# Altium footprint library DRA.PcbLib: 72 footprints (part 3 of 6)
Each footprint in its own frame and in the unit in brackets; x right, y up, seen from the top. Pads: shape width x height; smd on the part's side, far side on the other; paste and mask are expansions set on the pad; w line width, h text height; cw(c..) or ccw(c..) is an arc to the next point about the centre after c.
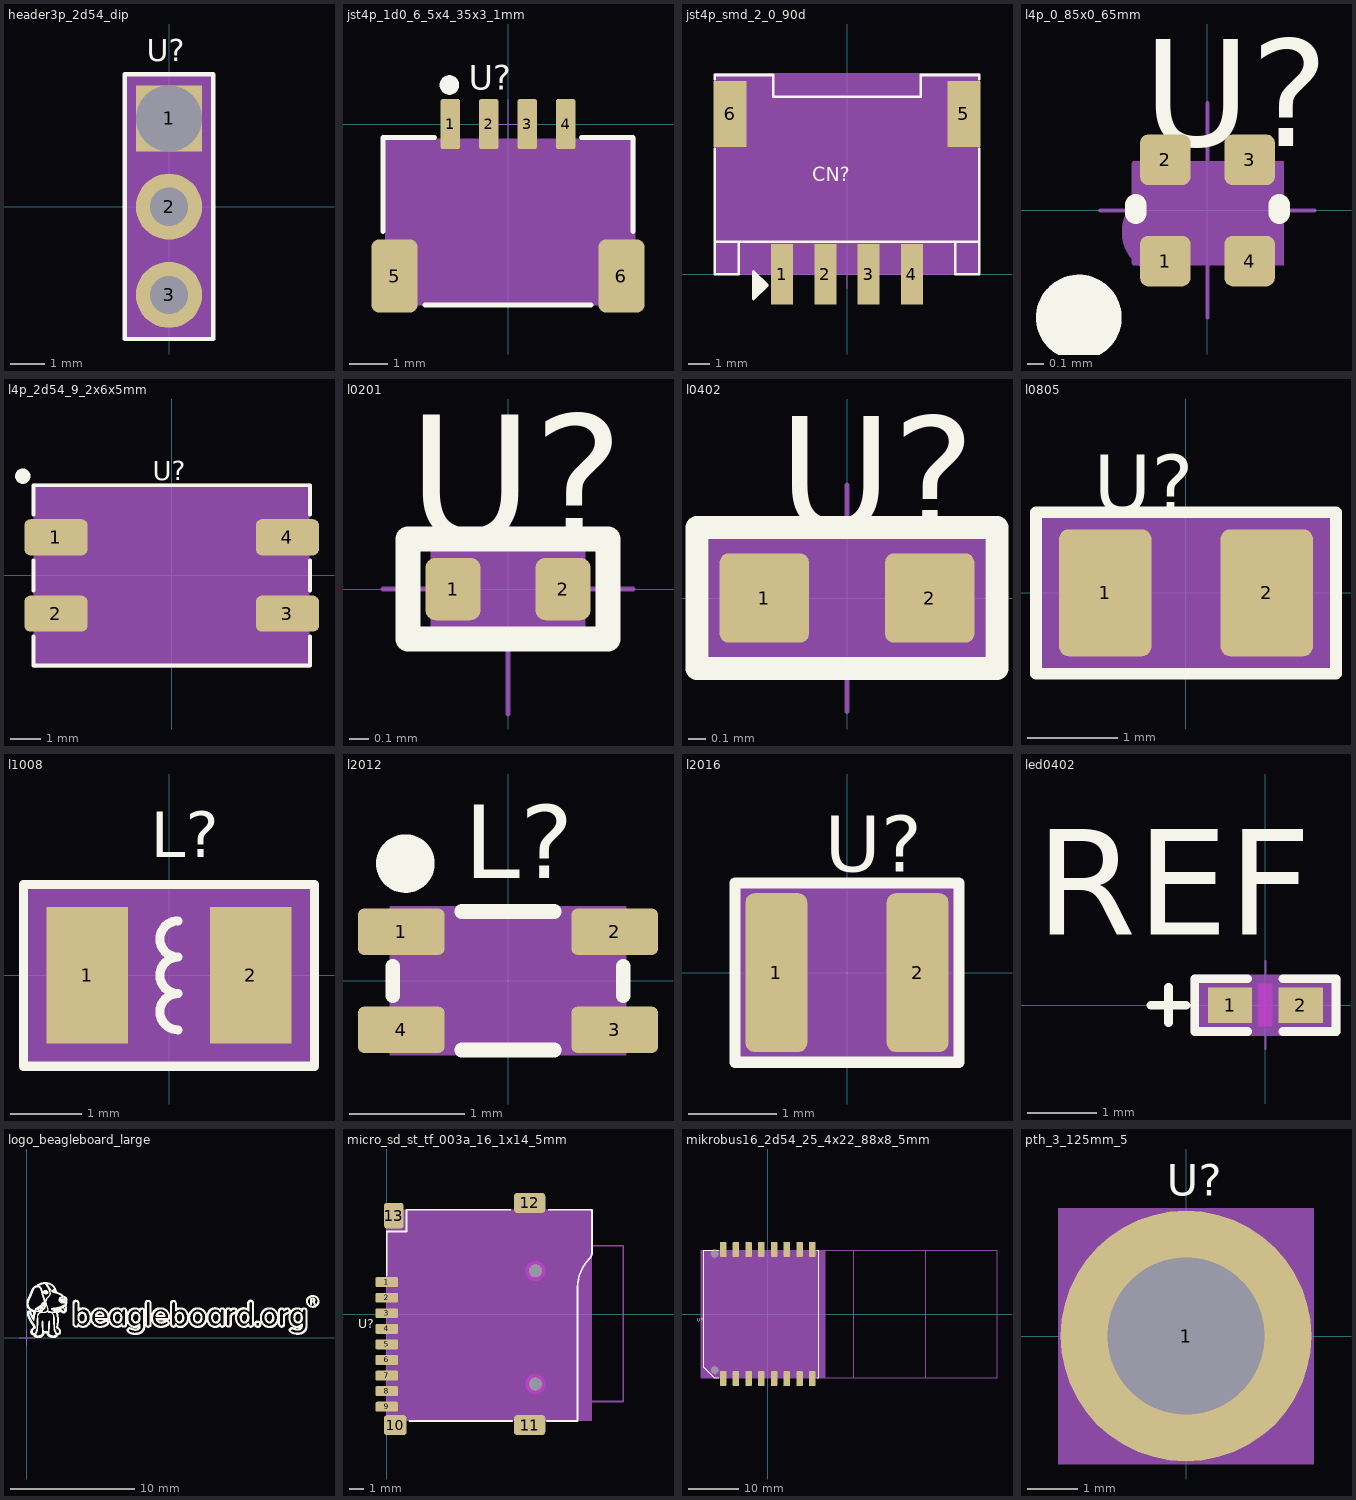
[diagram p2: the footprints below, top view; thin cyan lines are the x and y axes]

## header3p_2d54_dip [mil]
pads (3):
  rect 75x75 hole 75 square: 1(0,100)
  round 75 hole 43.31: 2(0,0) 3(0,-100)
Top Overlay:
  lines w5: -50,-150 -50,150 50,150 50,-150 -50,-150
  text "U?" at -25,165 h25
PLACE_BOUND_TOP:
  region: -50,-150 50,-150 50,150 -50,150
DRAWING_ORIGIN:
  lines w1: -25,0 25,0 ; 0,-25 0,25
PIN_NUMBER:
  text "1" at -10,100 h25
  text "3" at -10,-100 h25
  text "2" at -10,0 h25
ASSEMBLY_TOP:
  lines w1: -50,-150 -50,150 50,150 50,-150 -50,-150
  text "U?" at -10,-60 h25
  text "U?" at -40,-60 h25
3D body: height 150, standoff 0, extent -50,-150 50,150

## jst4p_1d0_6_5x4_35x3_1mm [mil]
pads (6):
  rrect20% 19.68x51.18 smd: 1(-59.06,0) 2(-19.69,0) 3(19.69,0) 4(59.06,0)
  rrect33% 47.24x74.8 smd: 5(-116.14,-155.51) 6(116.14,-155.51)
Top Overlay:
  circle w10: c-60,40 r5
  lines w5: -127.95,-110 -127.95,-13.78 -75,-13.78 ; -85,-185.04 85,-185.04 ; 75,-13.78 127.95,-13.78 127.95,-110
  text "U?" at -40,35 h25
PLACE_BOUND_TOP:
  region: -125,-185 130,-185 130,-15 -125,-15
DRAWING_ORIGIN:
  lines w1: -25,0 25,0 ; 0,-25 0,25
PIN_NUMBER:
  text "3" at 9.69,0 h25
  text "5" at -126.14,-155.51 h25
  text "1" at -69.06,0 h25
  text "6" at 106.14,-155.51 h25
  text "2" at -29.69,0 h25
  text "4" at 49.06,0 h25
ASSEMBLY_TOP:
  circle w10: c-60,-30 r5
  lines w1: -125,-185 -125,-15 130,-15 130,-185 -125,-185
  text "U?" at -5,-110 h25
  text "U?" at -5,-75 h25
3D body: height 150, standoff 0, extent -125,-185 130,-15

## jst4p_smd_2_0_90d [mil]
pads (6):
  rect 40x110 smd: 1(-118.11,0) 2(-39.37,0) 3(39.37,0) 4(118.11,0)
  rect 60x120 smd: 5(212.6,291.34) 6(-212.6,291.34)
Top Overlay:
  dashed: -170,5 -145,-20 -170,-45
  lines w5: -240.16,228.35 -240.16,59.06 ; -240.16,354.33 -240.16,362.2 -133.86,362.2 -133.86,322.83 133.86,322.83 133.86,362.2 240.16,362.2 240.16,354.33 ; -196.85,59.06 -196.85,0 -240.16,0 -240.16,59.06 ; 196.85,59.06 196.85,0 240.16,0 240.16,59.06 ; 240.16,228.35 240.16,59.06 ; -240.16,59.06 240.16,59.06 ; -170,-45 -145,-20 -170,5 -170,-10 -170,-45
  text "CN?" at -62.99,169.29 h25
PLACE_BOUND_TOP:
  region: -240,0 240,0 240,365 -240,365
DRAWING_ORIGIN:
  lines w1: -25,0 25,0 ; 0,-25 0,25
PIN_NUMBER:
  text "2" at -59.37,0 h25
  text "5" at 190.2,291.34 h28
  text "4" at 98.11,0 h25
  text "6" at -235,291.34 h28
  text "3" at 19.37,0 h25
  text "1" at -138.11,0 h25
ASSEMBLY_TOP:
  lines w1: -240,0 -240,365 240,365 240,0 -240,0
  text "V?" at -185.04,90.55 h25
  text "CN?" at -74.8,161.42 h25
3D body: height 150, standoff 0, extent -240,0 240,365

## l4p_0_85x0_65mm [mil]
pads (4):
  rrect33% 11.8x11.8 smd: 1(-9.84,-11.81) 2(-9.84,11.81) 3(9.84,11.81) 4(9.84,-11.81)
Top Overlay:
  circle w10: c-30,-25 r5
  lines w5: -16.73,-0.67 -16.73,1.34 ; 16.73,-0.67 16.73,1.34
  text "U?" at -15,15 h25
PLACE_BOUND_TOP:
  region: -17.44,-12.8 17.8,-12.8 17.8,11.42 -17.44,11.42
DRAWING_ORIGIN:
  lines w1: -25,0 25,0 ; 0,-25 0,25
PIN_NUMBER:
  text "3" at -0.16,11.81 h25
  text "1" at -19.84,-11.81 h25
  text "2" at -19.84,11.81 h25
  text "4" at -0.16,-11.81 h25
ASSEMBLY_TOP:
  circle w10: c-10,-5 r5
  lines w1: -17.24,-12.2 -17.24,10.87 17.32,10.87 17.32,-12.2 -17.24,-12.2
  text "U?" at -10,-10 h25
  text "U?" at -15,-15 h25
3D body: height 150, standoff 0, extent -17.44,-12.8 17.8,11.42

## l4p_2d54_9_2x6x5mm [mil]
pads (4):
  rrect33% 82.68x47.24 smd: 1(-151.57,50) 2(-151.57,-50) 3(151.57,-50) 4(151.57,50)
Top Overlay:
  circle w10: c-195,130 r5
  lines w5: -181.1,-80 -181.1,-118.11 181.1,-118.11 181.1,-80 ; -181.1,-20 -181.1,20 ; -181.1,80 -181.1,118.11 181.1,118.11 181.1,80 ; 181.1,-20 181.1,20
  text "U?" at -25,125 h25
PLACE_BOUND_TOP:
  region: -180,-120 180,-120 180,120 -180,120
DRAWING_ORIGIN:
  lines w1: -25,0 25,0 ; 0,-25 0,25
PIN_NUMBER:
  text "3" at 141.57,-50 h25
  text "1" at -161.57,50 h25
  text "2" at -161.57,-50 h25
  text "4" at 141.57,50 h25
ASSEMBLY_TOP:
  circle w10: c-165,105 r5
  lines w1: -180,-120 -180,120 180,120 180,-120 -180,-120
  text "U?" at -10,5 h25
  text "U?" at -15,0 h25
3D body: height 150, standoff 0, extent -180,-120 180,120

## l0201 [mil]
pads (2):
  rrect36% 11x12.5 smd: 1(-11,0) 2(11,0)
Top Overlay:
  lines w5: -20,-10 -20,10 20,10 20,-10 -20,-10
  text "U?" at -20,10 h25
PLACE_BOUND_TOP:
  region: -15,-10 15,-10 15,10 -15,10
DRAWING_ORIGIN:
  lines w1: -25,0 25,0 ; 0,-25 0,25
PIN_NUMBER:
  text "2" at 1,0 h25
  text "1" at -21,0 h25
ASSEMBLY_TOP:
  lines w1: -15,-10 -15,10 15,10 15,-10 -15,-10
  text "U?" at -10,-10 h25
  text "U?" at -10,-5 h25
3D body: height 150, standoff 0, extent -15,-10 15,10

## l0402 [mil]
pads (2):
  rrect20% 19.68x19.68 smd: 1(-18.21,0) 2(18.21,0)
Top Overlay:
  lines w5: -33.03,-15.53 33.03,-15.53 33.03,15.53 -33.03,15.53 -33.03,-15.53
  text "U?" at -15,15 h25
PLACE_BOUND_TOP:
  region: -30,-15 30,-15 30,15 -30,15
DRAWING_ORIGIN:
  lines w1: -25,0 25,0 ; 0,-25 0,25
PIN_NUMBER:
  text "2" at 8.21,0 h25
  text "1" at -28.21,0 h25
ASSEMBLY_TOP:
  lines w1: -30,-15 -30,15 30,15 30,-15 -30,-15
  text "U?" at 5,-10 h25
  text "U?" at -15,-10 h25
3D body: height 150, standoff 0, extent -30,-15 30,15

## l0805 [mil]
pads (2):
  rrect20% 40x55 smd: 1(-35,0) 2(35,0)
Top Overlay:
  lines w5: -65,-35 -65,35 65,35 65,-35 -65,-35
  text "U?" at -40,35 h25
PLACE_BOUND_TOP:
  region: -65,-35 65,-35 65,35 -65,35
DRAWING_ORIGIN:
  lines w1: -25,0 25,0 ; 0,-25 0,25
PIN_NUMBER:
  text "2" at 25,0 h25
  text "1" at -45,0 h25
ASSEMBLY_TOP:
  lines w1: -65,-35 -65,35 65,35 65,-35 -65,-35
  text "U?" at -10,5 h25
  text "U?" at -15,0 h25
3D body: height 150, standoff 0, extent -65,-35 65,35

## l1008 [mil]
pads (2):
  rect 45x75 smd: 1(-45,0) 2(45,0)
Top Overlay:
  lines w5: 5,-30 cw(c5,-20) -5,-20 cw(c5,-20) 5,-10 cw(c5,0) -5,0 cw(c5,0) 5,10 cw(c5,20) -5,20 cw(c5,20) 5,30 ; -80,-50 -80,50 -30,50 80,50 80,-50 -80,-50
  text "L?" at -10,65 h25
PLACE_BOUND_TOP:
  region: -80,-50 80,-50 80,50 -80,50
DRAWING_ORIGIN:
  lines w1: -25,0 25,0 ; 0,-25 0,25
PIN_NUMBER:
  text "2" at 45,0 h25
  text "1" at -65,0 h25
ASSEMBLY_TOP:
  lines w1: -80,-50 -80,50 80,50 80,-50 -80,-50 ; -50,-40 -50,40 50,40 50,-40 -50,-40
  text "L?" at -15,0 h25
  text "L?" at -15,-5 h25
BODY_CENTER:
  circle w1: c0,0 r50
  lines w1: -50,0 50,0 ; 0,-50 0,50
3D body: height 150, standoff 0, extent -80,-50 80,50

## l2012 [mil]
pads (4):
  rrect25% 29.52x15.74 smd: 1(-36.42,16.73) 2(36.42,16.73) 3(36.42,-16.73) 4(-36.42,-16.73)
Top Overlay:
  circle w10: c-35,40 r5
  lines w5: -39.37,-5 -39.37,5 ; -15.75,-23.62 15.75,-23.62 ; -15.75,23.62 15.75,23.62 ; 39.37,-5 39.37,5
  text "L?" at -15,35 h25
PLACE_BOUND_TOP:
  region: -40,-25 40,-25 40,25 -40,25
DRAWING_ORIGIN:
  lines w1: -25,0 25,0 ; 0,-25 0,25
PIN_NUMBER:
  text "3" at 16.42,-16.73 h25
  text "1" at -56.42,16.73 h25
  text "2" at 16.42,16.73 h25
  text "4" at -56.42,-16.73 h25
ASSEMBLY_TOP:
  circle w5: c-35,40 r5
  lines w1: -40,-25 -40,25 40,25 40,-25 -40,-25
  text "L?" at -10,0 h25
  text "L?" at -10,-5 h25
3D body: height 150, standoff 0, extent -40,-25 40,25

## l2016 [mil]
pads (2):
  rrect29% 27.56x70.86 smd: 1(-31.5,0) 2(31.5,0)
Top Overlay:
  lines w5: -50,-40 -50,40 50,40 50,-40 -50,-40
  text "U?" at -10,45 h25
PLACE_BOUND_TOP:
  region: -50,-40 50,-40 50,40 -50,40
DRAWING_ORIGIN:
  lines w1: -25,0 25,0 ; 0,-25 0,25
PIN_NUMBER:
  text "2" at 21.5,0 h25
  text "1" at -41.5,0 h25
ASSEMBLY_TOP:
  lines w1: -50,-40 -50,40 50,40 50,-40 -50,-40
  text "U?" at -10,5 h25
  text "U?" at -15,0 h25
3D body: height 150, standoff 0, extent -50,-40 50,40

## led0402 [mil]
pads (2):
  rect 25x20 smd: 1(-20,0) 2(20,0)
TOP keep-out:
  region: -4,-12 -4,12 4,12 4,-12
Top Overlay:
  lines w5: -65,0 -45,0 ; -55,-10 -55,10 ; -10,-15 -40,-15 -40,15 -10,15 ; 10,-15 40,-15 40,15 10,15
  text "REF DES" at -130,40 h60
PLACE_BOUND_TOP:
  region: -40,-15 -40,15 40,15 40,-15
DRAWING_ORIGIN:
  lines w1: -25,0 25,0 ; 0,-25 0,25
PIN_NUMBER:
  text "1" at -44,0 h60
  text "2" at -4,0 h60
ASSEMBLY_TOP:
  dashed: -5,15 -5,-15 10,0
  lines w5: -40,-15 -40,15 10,15 40,15 40,-15 10,-15 -40,-15
  text "REF DES" at -60,-60 h25
  text "REF DES" at -135,-30 h60
3D body: height 150, standoff 0, extent -40,-15 40,15

## logo_beagleboard_large [mil]
Top Overlay:
  drawing of 47893 lines, arcs and shapes, not listed
DRAWING_ORIGIN:
  lines w1: -25,0 25,0 ; 0,-25 0,25

## micro_sd_st_tf_003a_16_1x14_5mm [mm]
pads (15):
  rrect29% 1.6x0.7 smd: 1(0,2.25) 2(0,1.15) 3(0,0.05) 4(0,-1.05) 5(0,-2.15) 6(0,-3.25) 7(0,-4.35) 8(0,-5.45) 9(0,-6.55)
  rrect29% 1.6x1.4 smd: 10(0.6,-7.85)
  rrect29% 2.2x1.4 smd: 11(10.1,-7.85) 12(10.1,7.85)
  rrect29% 1.4x1.8 smd: 13(0.5,6.95)
  round 0.9 hole 0.9: ""(10.5,-4.95) ""(10.5,3.05)
Top Overlay:
  lines w0.127: 0,2.725 0,5.833 1.397,5.833 1.397,7.357 1.406,7.366 8.763,7.366 ; 1.604,-7.557 8.85,-7.557 ; 11.324,-7.557 13.484,-7.557 13.484,-6.174 13.484,1.89 cw(c16.325,1.889) 14.316,3.898 ccw(c13.872,4.342) 14.5,4.342 14.5,4.826 14.5,7.357 ; 11.43,7.366 14.491,7.366
  text "U?" at -2.032,-1.016 h0.64
PLACE_BOUND_TOP:
  region: 14.478,-7.493 14.478,7.366 0,7.366 0,-7.493
Multi-Layer keep-out:
  region: 11.21,3.05 11.186,3.234 11.115,3.405 11.002,3.552 10.855,3.665 10.684,3.736 10.5,3.76 10.316,3.736 10.145,3.665 9.998,3.552 9.885,3.405 9.814,3.234 9.79,3.05 9.814,2.866 9.885,2.695 9.998,2.548 10.145,2.435 10.316,2.364 10.5,2.34 10.684,2.364 10.855,2.435 11.002,2.548 11.115,2.695 11.186,2.866
  region: 11.21,-4.95 11.186,-4.766 11.115,-4.595 11.002,-4.448 10.855,-4.335 10.684,-4.264 10.5,-4.24 10.316,-4.264 10.145,-4.335 9.998,-4.448 9.885,-4.595 9.814,-4.766 9.79,-4.95 9.814,-5.134 9.885,-5.305 9.998,-5.452 10.145,-5.565 10.316,-5.636 10.5,-5.66 10.684,-5.636 10.855,-5.565 11.002,-5.452 11.115,-5.305 11.186,-5.134
DRAWING_ORIGIN:
  lines w0.025: -0.635,0 0.635,0 ; 0,-0.635 0,0.635
PIN_NUMBER:
  text "5" at -0.254,-2.15 h0.64
  text "3" at -0.254,0.05 h0.64
  text "1" at -0.254,2.25 h0.64
  text "6" at -0.254,-3.25 h0.64
  text "13" at -0.008,6.95 h0.64
  text "7" at -0.254,-4.35 h0.64
  text "4" at -0.254,-1.05 h0.64
  text "8" at -0.254,-5.45 h0.64
  text "11" at 9.592,-7.85 h0.64
  text "10" at 0.092,-7.85 h0.64
  text "2" at -0.254,1.15 h0.64
  text "12" at 9.592,7.85 h0.64
  text "9" at -0.254,-6.55 h0.64
ASSEMBLY_TOP:
  lines w0.025: 0,-7.493 0,7.366 14.478,7.366 14.478,-7.493 0,-7.493
  lines w0.127: 13.484,-6.174 16.704,-6.174 16.704,4.826 14.5,4.826
  text "U?" at 6.35,0.508 h0.64
  text "U?" at 6.35,-0.635 h0.64
3D body: height 3.81, standoff 0, extent 0,-7.493 14.478,7.366

## mikrobus16_2d54_25_4x22_88x8_5mm [mil]
pads (18):
  rrect31% 51.18x118.1 smd: 1(-350,-507.09) 2(-250,-507.09) 3(-150,-507.09) 4(-50,-507.09) 5(50,-507.09) 6(150,-507.09) 7(250,-507.09) 8(350,-507.09) 9(350,507.09) 10(250,507.09) 11(150,507.09) 12(50,507.09) 13(-50,507.09) 14(-150,507.09) 15(-250,507.09) 16(-350,507.09)
  round 55.12 hole 55.12: ""(-415.35,-440.94) ""(-415.35,472.44)
Top Overlay:
  lines w5: -385,-500 -418.11,-500 -500.79,-417.32 -500.79,500 -385,500 ; 385,-500 400,-500 400,500 385,500
  text "U?" at -555,-60 h25
PLACE_BOUND_TOP:
  region: -450,-500 450,-500 450,500 -450,500 -520,500 -520,-500
Multi-Layer keep-out:
  region: -380.19,-440.94 -381.39,-431.84 -384.9,-423.36 -390.49,-416.08 -397.77,-410.49 -406.25,-406.98 -415.35,-405.78 -424.46,-406.98 -432.94,-410.49 -440.22,-416.08 -445.81,-423.36 -449.32,-431.84 -450.52,-440.94 -449.32,-450.05 -445.81,-458.53 -440.22,-465.81 -432.94,-471.4 -424.46,-474.91 -415.35,-476.11 -406.25,-474.91 -397.77,-471.4 -390.49,-465.81 -384.9,-458.53 -381.39,-450.05
  region: -380.19,472.44 -381.39,481.54 -384.9,490.02 -390.49,497.31 -397.77,502.89 -406.25,506.41 -415.35,507.61 -424.46,506.41 -432.94,502.89 -440.22,497.31 -445.81,490.02 -449.32,481.54 -450.52,472.44 -449.32,463.34 -445.81,454.86 -440.22,447.58 -432.94,441.99 -424.46,438.47 -415.35,437.28 -406.25,438.47 -397.77,441.99 -390.49,447.58 -384.9,454.86 -381.39,463.34
DRAWING_ORIGIN:
  lines w1: -25,0 25,0 ; 0,-25 0,25
PIN_NUMBER:
  text "14" at -170,507.09 h25
  text "3" at -160,-507.09 h25
  text "16" at -370,507.09 h25
  text "1" at -360,-507.09 h25
  text "6" at 140,-507.09 h25
  text "13" at -70,507.09 h25
  text "7" at 240,-507.09 h25
  text "4" at -60,-507.09 h25
  text "8" at 340,-507.09 h25
  text "11" at 130,507.09 h25
  text "10" at 230,507.09 h25
  text "2" at -260,-507.09 h25
  text "12" at 30,507.09 h25
  text "15" at -270,507.09 h25
  text "9" at 340,507.09 h25
  text "5" at 40,-507.09 h25
ASSEMBLY_TOP:
  lines w3.94: -450,-391.73 450,-391.73 ; -450,391.73 450,391.73 ; 450,-500 675.98,-500 ; 450,-500 -450,-500 -450,500 450,500 ; 450,-500 450,500 ; 450,500 675.98,500 ; 675.98,-500 1238.98,-500 ; 675.98,-500 675.98,500 ; 675.98,500 1238.98,500 ; 1238.98,-500 1238.98,500 ; 1238.98,-500 1800,-500 1800,500 1238.98,500
  lines w5: -520,-400 -420,-500 ; -385,500 -521.26,500 -521.26,-500 -379.53,-500 -379.53,500
  text "U?" at -10,5 h25
  text "M" at 945,-25 h25
  text "L" at 1485,-35 h25
  text "S" at 570,-25 h25
  text "U?" at -15,0 h25
3D body: height 150, standoff 0, extent -520,-500 450,500

## pth_3_125mm_5 [mm]
pads (1):
  round 5 hole 3.125: 1(0,0)
Top Overlay:
  text "U?" at -0.381,2.794 h0.64
PLACE_BOUND_TOP:
  circle w0.025: c0,0 r2.5
  region: -2.55,-2.55 2.55,-2.55 2.55,2.55 -2.55,2.55
DRAWING_ORIGIN:
  lines w0.025: -0.635,0 0.635,0 ; 0,-0.635 0,0.635
PIN_NUMBER:
  text "1" at -0.254,0 h0.64
ASSEMBLY_TOP:
  circle w0.025: c0,0 r2.5
  text "U?" at -0.381,0 h0.64
  text "U?" at -0.254,0.127 h0.64
3D body: height 3.81, standoff 0, extent -2.55,-2.55 2.55,2.55